# Altium schematic symbol library pic.SchLib: 1 symbol
Pins are listed as number, name and electrical type; pins without a type are passive.

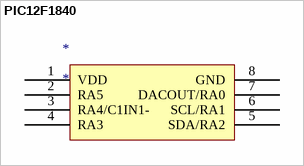
[diagram p0: symbol PIC12F1840]

## PIC12F1840
designator *
footprint SOIC150-8_N (8-Pin Plastic Narrow Body Small Outline Integrated Circuit 1.27 mm Pitch, IPC Medium Density)
pins: 1 VDD, 2 RA5, 3 RA4/C1IN1-, 4 RA3, 5 SDA/RA2, 6 SCL/RA1, 7 DACOUT/RA0, 8 GND